# Altium footprint library Boards.PCBLIB: 6 footprints
Each footprint in its own frame and in the unit in brackets; x right, y up, seen from the top. Pads: shape width x height; smd on the part's side, far side on the other; paste and mask are expansions set on the pad; w line width, h text height; cw(c..) or ccw(c..) is an arc to the next point about the centre after c.
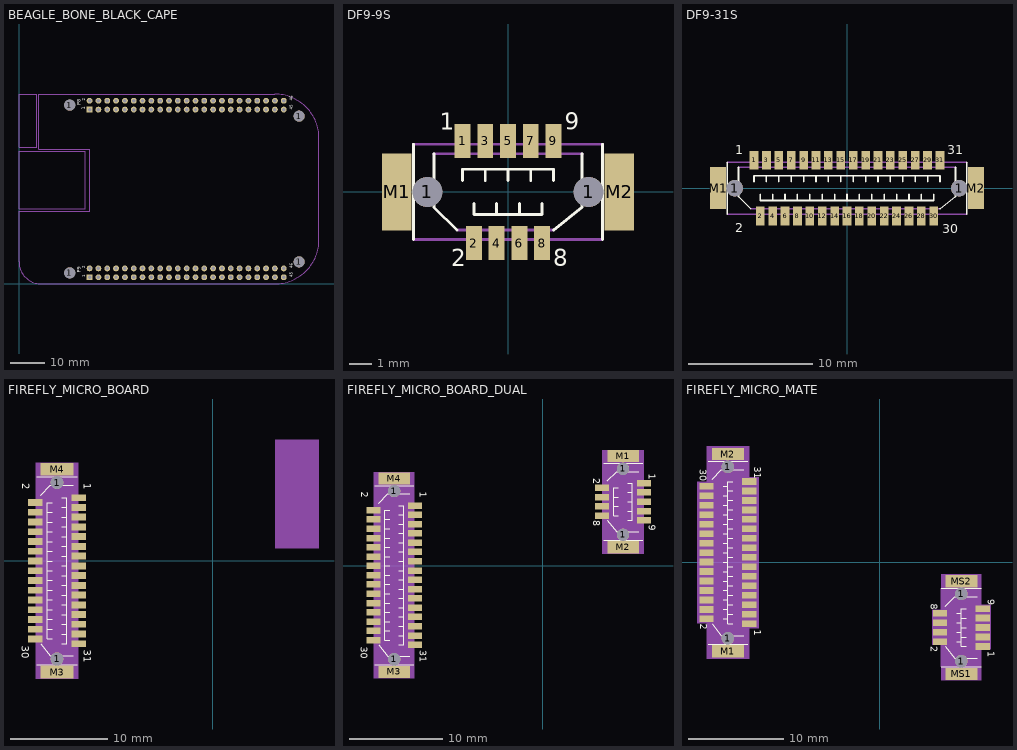
[diagram p0: the footprints below, top view; thin cyan lines are the x and y axes]

## BEAGLE_BONE_BLACK_CAPE [mil]
pads (96):
  round 125 hole 125: 1(575,125) 1(575,2025) 1(3175,250) 1(3175,1900)
  rect 66x66 hole 38: P8.1(800,1975) P9.1(800,75)
  round 66 hole 38: P8.2(800,2075) P8.3(900,1975) P8.4(900,2075) P8.5(1000,1975) P8.6(1000,2075) P8.7(1100,1975) P8.8(1100,2075) P8.9(1200,1975) P8.10(1200,2075) P8.11(1300,1975) P8.12(1300,2075) P8.13(1400,1975) P8.14(1400,2075) P8.15(1500,1975) P8.16(1500,2075) P8.17(1600,1975) P8.18(1600,2075) P8.19(1700,1975) P8.20(1700,2075) P8.21(1800,1975) P8.22(1800,2075) P8.23(1900,1975) P8.24(1900,2075) P8.25(2000,1975) P8.26(2000,2075) P8.27(2100,1975) P8.28(2100,2075) P8.29(2200,1975) P8.30(2200,2075) P8.31(2300,1975) P8.32(2300,2075) P8.33(2400,1975) P8.34(2400,2075) P8.35(2500,1975) P8.36(2500,2075) P8.37(2600,1975) P8.38(2600,2075) P8.39(2700,1975) P8.40(2700,2075) P8.41(2800,1975) P8.42(2800,2075) P8.43(2900,1975) P8.44(2900,2075) P8.45(3000,1975) P8.46(3000,2075) P9.2(800,175) P9.3(900,75) P9.4(900,175) P9.5(1000,75) P9.6(1000,175) P9.7(1100,75) P9.8(1100,175) P9.9(1200,75) P9.10(1200,175) P9.11(1300,75) P9.12(1300,175) P9.13(1400,75) P9.14(1400,175) P9.15(1500,75) P9.16(1500,175) P9.17(1600,75) P9.18(1600,175) P9.19(1700,75) P9.20(1700,175) P9.21(1800,75) P9.22(1800,175) P9.23(1900,75) P9.24(1900,175) P9.25(2000,75) P9.26(2000,175) P9.27(2100,75) P9.28(2100,175) P9.29(2200,75) P9.30(2200,175) P9.31(2300,75) P9.32(2300,175) P9.33(2400,75) P9.34(2400,175) P9.35(2500,75) P9.36(2500,175) P9.37(2600,75) P9.38(2600,175) P9.39(2700,75) P9.40(2700,175) P9.41(2800,75) P9.42(2800,175) P9.43(2900,75) P9.44(2900,175) P9.45(3000,75) P9.46(3000,175)
Top Overlay:
  text "1" at 750,1975 h42.5
  text "2" at 750,2075 h34
  text "P8" at 700,2025 h42.5
  text "45" at 3100,1975 h34
  text "46" at 3100,2075 h34
  text "46" at 3100,175 h34
  text "45" at 3100,75 h34
  text "1" at 750,75 h34
  text "2" at 750,175 h34
  text "P9" at 700,125 h42.5
Bottom Overlay:
  text "P8" at 700,2025 h42.5
  text "P9" at 700,125 h42.5
  text "1" at 750,1975 h42.5
  text "1" at 750,75 h34
  text "2" at 750,175 h34
  text "2" at 750,2075 h34
  text "46" at 3100,2075 h34
  text "45" at 3100,1975 h34
  text "45" at 3100,75 h34
  text "46" at 3100,175 h34
Mechanical 13:
  lines w5: 0,850 750,850 750,1500 0,1500 0,850 ; 0,1550 200,1550 200,2150 0,2150 0,1550
  text "Ethernet" at 300,1200 h42.5
  text "LED/Button" at 100,1850 h42.5
  text "Cutout" at 450,1200 h42.5
Mechanical 16:
  lines w5: 0,250 ccw(c250,250) 250,0 2900,0 ccw(c2900,500) 3400,500 3400,1650 ccw(c2900,1650) 2900,2150 225,2150 225,1525 800,1525 800,825 0,825 0,250

## DF9-9S [mil]
pads (13):
  round 52 hole 52: 1(-139.76,0) 1(139.76,0)
  rect 27.56x59.06 smd: 1(-78.74,88.58) 2(-59.06,-88.58) 3(-39.37,88.58) 4(-19.69,-88.58) 5(0,88.58) 6(19.69,-88.58) 7(39.37,88.58) 8(59.06,-88.58) 9(78.74,88.58)
  rect 51.18x133.86 smd: M1(-192.91,0) M2(192.91,0)
Top Overlay:
  lines w5: -163.39,-82.68 -163.39,82.68 ; -127.95,66.14 -127.95,-26.77 -88.58,-66.14 ; -78.74,19.69 -78.74,39.37 -39.37,39.37 ; -59.06,-19.69 -59.06,-39.37 -19.69,-39.37 ; -39.37,19.69 -39.37,39.37 ; -19.69,-19.69 -19.69,-39.37 ; 0,19.69 0,39.37 ; 19.69,-19.69 19.69,-39.37 ; 39.37,19.69 39.37,39.37 ; 59.06,-19.69 59.06,-39.37 19.69,-39.37 ; 78.74,-66.14 127.95,-26.77 127.95,66.14 ; 78.74,19.69 78.74,39.37 39.37,39.37 ; 163.39,-82.68 163.39,82.68 ; -39.37,39.37 0,39.37 ; -19.69,-39.37 19.69,-39.37 ; 0,39.37 39.37,39.37
  text "9" at 98.43,98.43 h49.6
  text "8" at 78.74,-137.8 h49.6
  text "2" at -98.43,-137.8 h49.6
  text "1" at -118.11,98.43 h49.6
Mechanical 16:
  lines w5: -163.39,-82.68 163.39,-82.68 ; -163.39,82.68 163.39,82.68 ; -127.95,66.14 127.95,66.14 ; -88.58,-66.14 78.74,-66.14

## DF9-31S [mm]
pads (35):
  round 1.321 hole 1.321: 1(-9.05,0) 1(9.05,0)
  rect 0.7x1.5 smd: 1(-7.5,2.25) 2(-7,-2.25) 3(-6.5,2.25) 4(-6,-2.25) 5(-5.5,2.25) 6(-5,-2.25) 7(-4.5,2.25) 8(-4,-2.25) 9(-3.5,2.25) 10(-3,-2.25) 11(-2.5,2.25) 12(-2,-2.25) 13(-1.5,2.25) 14(-1,-2.25) 15(-0.5,2.25) 16(0,-2.25) 17(0.5,2.25) 18(1,-2.25) 19(1.5,2.25) 20(2,-2.25) 21(2.5,2.25) 22(3,-2.25) 23(3.5,2.25) 24(4,-2.25) 25(4.5,2.25) 26(5,-2.25) 27(5.5,2.25) 28(6,-2.25) 29(6.5,2.25) 30(7,-2.25) 31(7.5,2.25)
  rect 1.3x3.4 smd: M1(-10.4,0) M2(10.4,0)
Top Overlay:
  lines w0.127: -9.65,-2.1 -9.65,2.1 ; -8.75,1.68 -8.75,-0.68 -7.75,-1.68 ; -7.5,0.5 -7.5,1 -6.5,1 ; -7,-0.5 -7,-1 -6,-1 ; -6.5,0.5 -6.5,1 ; -6,-0.5 -6,-1 ; -5.5,0.5 -5.5,1 ; -5,-0.5 -5,-1 ; -4.5,0.5 -4.5,1 ; -4,-0.5 -4,-1 ; -3.5,0.5 -3.5,1 ; -3,-0.5 -3,-1 ; -2.5,0.5 -2.5,1 ; -2,-0.5 -2,-1 ; -1.5,0.5 -1.5,1 ; -1,-0.5 -1,-1 ; -0.5,0.5 -0.5,1 ; 0,-0.5 0,-1 ; 0.5,0.5 0.5,1 ; 1,-0.5 1,-1 ; 1.5,0.5 1.5,1 ; 2,-0.5 2,-1 ; 2.5,0.5 2.5,1 ; 3,-0.5 3,-1 ; 3.5,0.5 3.5,1 ; 4,-0.5 4,-1 ; 4.5,0.5 4.5,1 ; 5,-0.5 5,-1 ; 5.5,0.5 5.5,1 ; 6,-0.5 6,-1 ; 6.5,0.5 6.5,1 ; 7,-0.5 7,-1 6,-1 ; 7.5,-1.68 8.75,-0.68 8.75,1.68 ; 7.5,0.5 7.5,1 6.5,1 ; 9.65,-2.1 9.65,2.1 ; -6.5,1 -5.5,1 ; -6,-1 -5,-1 ; -5.5,1 -4.5,1 ; -5,-1 -4,-1 ; -4.5,1 -3.5,1 ; -4,-1 -3,-1 ; -3.5,1 -2.5,1 ; -3,-1 -2,-1 ; -2.5,1 -1.5,1 ; -2,-1 -1,-1 ; -1.5,1 -0.5,1 ; -1,-1 0,-1 ; -0.5,1 0.5,1 ; 0,-1 1,-1 ; 0.5,1 1.5,1 ; 1,-1 2,-1 ; 1.5,1 2.5,1 ; 2,-1 3,-1 ; 2.5,1 3.5,1 ; 3,-1 4,-1 ; 3.5,1 4.5,1 ; 4,-1 5,-1 ; 4.5,1 5.5,1 ; 5,-1 6,-1 ; 5.5,1 6.5,1
  text "31" at 8.1,2.5 h1.26
  text "30" at 7.7,-3.9 h1.26
  text "2" at -9,-3.8 h1.26
  text "1" at -9,2.5 h1.26
Mechanical 16:
  lines w0.127: -9.65,-2.1 9.65,-2.1 ; -9.65,2.1 9.65,2.1 ; -8.75,1.68 8.75,1.68 ; -7.75,-1.68 7.5,-1.68

## FIREFLY_MICRO_BOARD [mil]
pads (35):
  round 52 hole 52: 1(-630.25,-395.72) 1(-630.25,316.88)
  rect 59.06x27.56 smd: 1(-541.67,255.86) 2(-718.83,236.17) 3(-541.67,216.49) 4(-718.83,196.8) 5(-541.67,177.12) 6(-718.83,157.43) 7(-541.67,137.75) 8(-718.83,118.06) 9(-541.67,98.38) 10(-718.83,78.69) 11(-541.67,59.01) 12(-718.83,39.32) 13(-541.67,19.64) 14(-718.83,-0.05) 15(-541.67,-19.73) 16(-718.83,-39.42) 17(-541.67,-59.1) 18(-718.83,-78.79) 19(-541.67,-98.47) 20(-718.83,-118.16) 21(-541.67,-137.84) 22(-718.83,-157.53) 23(-541.67,-177.21) 24(-718.83,-196.9) 25(-541.67,-216.58) 26(-718.83,-236.27) 27(-541.67,-255.95) 28(-718.83,-275.64) 29(-541.67,-295.32) 30(-718.83,-315.01) 31(-541.67,-334.69)
  rect 133.86x51.18 smd: M3(-630.25,-448.87) M4(-630.25,370.03)
Top Overlay:
  lines w5: -712.93,-419.34 -547.57,-419.34 ; -712.93,340.5 -547.57,340.5 ; -696.39,-334.69 -657.02,-383.91 -564.11,-383.91 ; -696.39,265.7 -657.02,305.07 -564.11,305.07 ; -649.94,-315.01 -669.62,-315.01 -669.62,-275.64 ; -649.94,-275.64 -669.62,-275.64 ; -649.94,-236.27 -669.62,-236.27 ; -649.94,-196.9 -669.62,-196.9 ; -649.94,-157.53 -669.62,-157.53 ; -649.94,-118.16 -669.62,-118.16 ; -649.94,-78.79 -669.62,-78.79 ; -649.94,-39.42 -669.62,-39.42 ; -649.94,-0.05 -669.62,-0.05 ; -649.94,39.32 -669.62,39.32 ; -649.94,78.69 -669.62,78.69 ; -649.94,118.06 -669.62,118.06 ; -649.94,157.43 -669.62,157.43 ; -649.94,196.8 -669.62,196.8 ; -649.94,236.17 -669.62,236.17 -669.62,196.8 ; -610.57,-334.69 -590.88,-334.69 -590.88,-295.32 ; -610.57,-295.32 -590.88,-295.32 ; -610.57,-255.95 -590.88,-255.95 ; -610.57,-216.58 -590.88,-216.58 ; -610.57,-177.21 -590.88,-177.21 ; -610.57,-137.84 -590.88,-137.84 ; -610.57,-98.47 -590.88,-98.47 ; -610.57,-59.1 -590.88,-59.1 ; -610.57,-19.73 -590.88,-19.73 ; -610.57,19.64 -590.88,19.64 ; -610.57,59.01 -590.88,59.01 ; -610.57,98.38 -590.88,98.38 ; -610.57,137.75 -590.88,137.75 ; -610.57,177.12 -590.88,177.12 ; -610.57,216.49 -590.88,216.49 ; -610.57,255.86 -590.88,255.86 -590.88,216.49 ; -669.62,-275.64 -669.62,-236.27 ; -669.62,-236.27 -669.62,-196.9 ; -669.62,-196.9 -669.62,-157.53 ; -669.62,-157.53 -669.62,-118.16 ; -669.62,-118.16 -669.62,-78.79 ; -669.62,-78.79 -669.62,-39.42 ; -669.62,-39.42 -669.62,-0.05 ; -669.62,-0.05 -669.62,39.32 ; -669.62,39.32 -669.62,78.69 ; -669.62,78.69 -669.62,118.06 ; -669.62,118.06 -669.62,157.43 ; -669.62,157.43 -669.62,196.8 ; -590.88,-295.32 -590.88,-255.95 ; -590.88,-255.95 -590.88,-216.58 ; -590.88,-216.58 -590.88,-177.21 ; -590.88,-177.21 -590.88,-137.84 ; -590.88,-137.84 -590.88,-98.47 ; -590.88,-98.47 -590.88,-59.1 ; -590.88,-59.1 -590.88,-19.73 ; -590.88,-19.73 -590.88,19.64 ; -590.88,19.64 -590.88,59.01 ; -590.88,59.01 -590.88,98.38 ; -590.88,98.38 -590.88,137.75 ; -590.88,137.75 -590.88,177.12 ; -590.88,177.12 -590.88,216.49
  text "1" at -531.83,314.91 h49.6
  text "2" at -779.86,314.91 h49.6
  text "30" at -783.8,-342.57 h49.6
  text "31" at -531.83,-358.32 h49.6
Mechanical 16:
  lines w5: -712.93,-419.34 -712.93,340.5 ; -696.39,-334.69 -696.39,265.7 ; -564.11,-383.91 -564.11,305.07 ; -547.57,-419.34 -547.57,340.5
Mechanical 27:
  rectangle: -717.24,-477.02 -544.01,396.99
  rectangle: 251.27,50.54 428.43,491.48
3D body "DF9-31S-1V.stp": height 129.92, standoff -31.5, extent -740.49,-453.87 -520.02,376.84

## FIREFLY_MICRO_BOARD_DUAL [mil]
pads (48):
  round 52 hole 52: 1(-630.25,-395.72) 1(-630.25,316.88) 1(339.53,132.16) 1(339.53,411.69)
  rect 59.06x27.56 smd: 1(-541.67,255.86) 2(-718.83,236.17) 3(-541.67,216.49) 4(-718.83,196.8) 5(-541.67,177.12) 6(-718.83,157.43) 7(-541.67,137.75) 8(-718.83,118.06) 9(-541.67,98.38) 10(-718.83,78.69) 11(-541.67,59.01) 12(-718.83,39.32) 13(-541.67,19.64) 14(-718.83,-0.05) 15(-541.67,-19.73) 16(-718.83,-39.42) 17(-541.67,-59.1) 18(-718.83,-78.79) 19(-541.67,-98.47) 20(-718.83,-118.16) 21(-541.67,-137.84) 22(-718.83,-157.53) 23(-541.67,-177.21) 24(-718.83,-196.9) 25(-541.67,-216.58) 26(-718.83,-236.27) 27(-541.67,-255.95) 28(-718.83,-275.64) 29(-541.67,-295.32) 30(-718.83,-315.01) 31(-541.67,-334.69) P1(428.11,350.66) P2(250.94,330.98) P3(428.11,311.29) P4(250.94,291.61) P5(428.11,271.92) P6(250.94,252.24) P7(428.11,232.55) P8(250.94,212.87) P9(428.11,193.18)
  rect 133.86x51.18 smd: M1(339.53,464.83) M2(339.53,79.01) M3(-630.25,-448.87) M4(-630.25,370.03)
Top Overlay:
  lines w5: -712.93,-419.34 -547.57,-419.34 ; -712.93,340.5 -547.57,340.5 ; -696.39,-334.69 -657.02,-383.91 -564.11,-383.91 ; -696.39,265.7 -657.02,305.07 -564.11,305.07 ; -649.94,-315.01 -669.62,-315.01 -669.62,-275.64 ; -649.94,-275.64 -669.62,-275.64 ; -649.94,-236.27 -669.62,-236.27 ; -649.94,-196.9 -669.62,-196.9 ; -649.94,-157.53 -669.62,-157.53 ; -649.94,-118.16 -669.62,-118.16 ; -649.94,-78.79 -669.62,-78.79 ; -649.94,-39.42 -669.62,-39.42 ; -649.94,-0.05 -669.62,-0.05 ; -649.94,39.32 -669.62,39.32 ; -649.94,78.69 -669.62,78.69 ; -649.94,118.06 -669.62,118.06 ; -649.94,157.43 -669.62,157.43 ; -649.94,196.8 -669.62,196.8 ; -649.94,236.17 -669.62,236.17 -669.62,196.8 ; -610.57,-334.69 -590.88,-334.69 -590.88,-295.32 ; -610.57,-295.32 -590.88,-295.32 ; -610.57,-255.95 -590.88,-255.95 ; -610.57,-216.58 -590.88,-216.58 ; -610.57,-177.21 -590.88,-177.21 ; -610.57,-137.84 -590.88,-137.84 ; -610.57,-98.47 -590.88,-98.47 ; -610.57,-59.1 -590.88,-59.1 ; -610.57,-19.73 -590.88,-19.73 ; -610.57,19.64 -590.88,19.64 ; -610.57,59.01 -590.88,59.01 ; -610.57,98.38 -590.88,98.38 ; -610.57,137.75 -590.88,137.75 ; -610.57,177.12 -590.88,177.12 ; -610.57,216.49 -590.88,216.49 ; -610.57,255.86 -590.88,255.86 -590.88,216.49 ; 256.85,108.54 422.2,108.54 ; 256.85,435.31 422.2,435.31 ; 273.39,193.18 312.76,143.97 405.67,143.97 ; 273.39,360.5 312.76,399.87 405.67,399.87 ; 319.84,212.87 300.16,212.87 300.16,252.24 ; 319.84,252.24 300.16,252.24 ; 319.84,291.61 300.16,291.61 ; 319.84,330.98 300.16,330.98 300.16,291.61 ; 359.21,193.18 378.9,193.18 378.9,232.55 ; 359.21,232.55 378.9,232.55 ; 359.21,271.92 378.9,271.92 ; 359.21,311.29 378.9,311.29 ; 359.21,350.66 378.9,350.66 378.9,311.29 ; -669.62,-275.64 -669.62,-236.27 ; -669.62,-236.27 -669.62,-196.9 ; -669.62,-196.9 -669.62,-157.53 ; -669.62,-157.53 -669.62,-118.16 ; -669.62,-118.16 -669.62,-78.79 ; -669.62,-78.79 -669.62,-39.42 ; -669.62,-39.42 -669.62,-0.05 ; -669.62,-0.05 -669.62,39.32 ; -669.62,39.32 -669.62,78.69 ; -669.62,78.69 -669.62,118.06 ; -669.62,118.06 -669.62,157.43 ; -669.62,157.43 -669.62,196.8 ; -590.88,-295.32 -590.88,-255.95 ; -590.88,-255.95 -590.88,-216.58 ; -590.88,-216.58 -590.88,-177.21 ; -590.88,-177.21 -590.88,-137.84 ; -590.88,-137.84 -590.88,-98.47 ; -590.88,-98.47 -590.88,-59.1 ; -590.88,-59.1 -590.88,-19.73 ; -590.88,-19.73 -590.88,19.64 ; -590.88,19.64 -590.88,59.01 ; -590.88,59.01 -590.88,98.38 ; -590.88,98.38 -590.88,137.75 ; -590.88,137.75 -590.88,177.12 ; -590.88,177.12 -590.88,216.49 ; 300.16,252.24 300.16,291.61 ; 378.9,232.55 378.9,271.92 ; 378.9,271.92 378.9,311.29
  text "9" at 437.95,173.5 h49.6
  text "8" at 201.73,193.18 h49.6
  text "2" at 201.73,370.35 h49.6
  text "1" at 437.95,390.03 h49.6
  text "31" at -531.83,-358.32 h49.6
  text "30" at -783.8,-342.57 h49.6
  text "2" at -779.86,314.91 h49.6
  text "1" at -531.83,314.91 h49.6
Mechanical 16:
  lines w5: -712.93,-419.34 -712.93,340.5 ; -696.39,-334.69 -696.39,265.7 ; -564.11,-383.91 -564.11,305.07 ; -547.57,-419.34 -547.57,340.5 ; 256.85,108.54 256.85,435.31 ; 273.39,193.18 273.39,360.5 ; 405.67,143.97 405.67,399.87 ; 422.2,108.54 422.2,435.31
Mechanical 27:
  rectangle: 251.27,50.54 428.43,491.48
  rectangle: -717.24,-477.02 -544.01,396.99

## FIREFLY_MICRO_MATE [mil]
pads (48):
  round 52 hole 52: 1(-630.25,-316.8) 1(-630.25,395.8) 1(339.53,-411.61) 1(339.53,-132.08)
  rect 59.06x27.56 smd: 1(-541.67,-255.78) 2(-718.83,-236.09) 3(-541.67,-216.41) 4(-718.83,-196.72) 5(-541.67,-177.04) 6(-718.83,-157.35) 7(-541.67,-137.67) 8(-718.83,-117.98) 9(-541.67,-98.3) 10(-718.83,-78.61) 11(-541.67,-58.93) 12(-718.83,-39.24) 13(-541.67,-19.56) 14(-718.83,0.13) 15(-541.67,19.81) 16(-718.83,39.5) 17(-541.67,59.18) 18(-718.83,78.87) 19(-541.67,98.55) 20(-718.83,118.24) 21(-541.67,137.92) 22(-718.83,157.61) 23(-541.67,177.29) 24(-718.83,196.98) 25(-541.67,216.66) 26(-718.83,236.35) 27(-541.67,256.03) 28(-718.83,275.72) 29(-541.67,295.4) 30(-718.83,315.09) 31(-541.67,334.77) S1(428.11,-350.58) S2(250.94,-330.9) S3(428.11,-311.21) S4(250.94,-291.53) S5(428.11,-271.84) S6(250.94,-252.16) S7(428.11,-232.47) S8(250.94,-212.79) S9(428.11,-193.1)
  rect 133.86x51.18 smd: M1(-630.25,-369.95) M2(-630.25,448.94) MS1(339.53,-464.76) MS2(339.53,-78.93)
Top Overlay:
  lines w5: -712.93,-340.43 -547.57,-340.43 ; -712.93,419.42 -547.57,419.42 ; -696.39,-255.78 -657.02,-304.99 -564.11,-304.99 ; -696.39,344.61 -657.02,383.98 -564.11,383.98 ; -649.94,-236.09 -630.25,-236.09 ; -649.94,-196.72 -630.25,-196.72 ; -649.94,-157.35 -630.25,-157.35 ; -649.94,-117.98 -630.25,-117.98 ; -649.94,-78.61 -630.25,-78.61 ; -649.94,-39.24 -630.25,-39.24 ; -649.94,0.13 -630.25,0.13 ; -649.94,39.5 -630.25,39.5 ; -649.94,78.87 -630.25,78.87 ; -649.94,118.24 -630.25,118.24 ; -649.94,157.61 -630.25,157.61 ; -649.94,196.98 -630.25,196.98 ; -649.94,236.35 -630.25,236.35 ; -649.94,275.72 -630.25,275.72 ; -649.94,315.09 -630.25,315.09 ; -610.57,-255.78 -630.25,-255.78 -630.25,-236.09 ; -610.57,-216.41 -630.25,-216.41 ; -610.57,-177.04 -630.25,-177.04 ; -610.57,-137.67 -630.25,-137.67 ; -610.57,-98.3 -630.25,-98.3 ; -610.57,-58.93 -630.25,-58.93 ; -610.57,-19.56 -630.25,-19.56 ; -610.57,19.81 -630.25,19.81 ; -610.57,59.18 -630.25,59.18 ; -610.57,98.55 -630.25,98.55 ; -610.57,137.92 -630.25,137.92 ; -610.57,177.29 -630.25,177.29 ; -610.57,216.66 -630.25,216.66 ; -610.57,256.03 -630.25,256.03 ; -610.57,295.4 -630.25,295.4 ; -610.57,334.77 -630.25,334.77 -630.25,315.09 ; 256.85,-435.23 422.2,-435.23 ; 256.85,-108.46 422.2,-108.46 ; 273.39,-350.58 312.76,-399.8 405.67,-399.8 ; 273.39,-183.26 312.76,-143.89 405.67,-143.89 ; 319.84,-330.9 339.53,-330.9 ; 319.84,-291.53 339.53,-291.53 ; 319.84,-252.16 339.53,-252.16 ; 319.84,-212.79 339.53,-212.79 ; 359.21,-350.58 339.53,-350.58 339.53,-330.9 ; 359.21,-311.21 339.53,-311.21 ; 359.21,-271.84 339.53,-271.84 ; 359.21,-232.47 339.53,-232.47 ; 359.21,-193.1 339.53,-193.1 339.53,-212.79 ; -630.25,-236.09 -630.25,-216.41 ; -630.25,-216.41 -630.25,-196.72 ; -630.25,-196.72 -630.25,-177.04 ; -630.25,-177.04 -630.25,-157.35 ; -630.25,-157.35 -630.25,-137.67 ; -630.25,-137.67 -630.25,-117.98 ; -630.25,-117.98 -630.25,-98.3 ; -630.25,-98.3 -630.25,-78.61 ; -630.25,-78.61 -630.25,-58.93 ; -630.25,-58.93 -630.25,-39.24 ; -630.25,-39.24 -630.25,-19.56 ; -630.25,-19.56 -630.25,0.13 ; -630.25,0.13 -630.25,19.81 ; -630.25,19.81 -630.25,39.5 ; -630.25,39.5 -630.25,59.18 ; -630.25,59.18 -630.25,78.87 ; -630.25,78.87 -630.25,98.55 ; -630.25,98.55 -630.25,118.24 ; -630.25,118.24 -630.25,137.92 ; -630.25,137.92 -630.25,157.61 ; -630.25,157.61 -630.25,177.29 ; -630.25,177.29 -630.25,196.98 ; -630.25,196.98 -630.25,216.66 ; -630.25,216.66 -630.25,236.35 ; -630.25,236.35 -630.25,256.03 ; -630.25,256.03 -630.25,275.72 ; -630.25,275.72 -630.25,295.4 ; -630.25,295.4 -630.25,315.09 ; 339.53,-330.9 339.53,-311.21 ; 339.53,-311.21 339.53,-291.53 ; 339.53,-291.53 339.53,-271.84 ; 339.53,-271.84 339.53,-252.16 ; 339.53,-252.16 339.53,-232.47 ; 339.53,-232.47 339.53,-212.79
  text "9" at 437.95,-153.73 h49.6
  text "8" at 201.73,-173.42 h49.6
  text "2" at 201.73,-350.58 h49.6
  text "1" at 437.95,-370.27 h49.6
  text "31" at -531.83,395.6 h49.6
  text "30" at -758.8,386.35 h49.6
  text "2" at -754.86,-256.17 h49.6
  text "1" at -531.83,-281.17 h49.6
Mechanical 16:
  lines w5: -712.93,-340.43 -712.93,419.42 ; -696.39,-255.78 -696.39,344.61 ; -564.11,-304.99 -564.11,383.98 ; -547.57,-340.43 -547.57,419.42 ; 256.85,-435.23 256.85,-108.46 ; 273.39,-350.58 273.39,-183.26 ; 405.67,-399.8 405.67,-143.89 ; 422.2,-435.23 422.2,-108.46
Mechanical 27:
  rectangle: 423.23,-364.13 462.6,-177.13
  rectangle: 216.54,-344.45 255.91,-196.81
  rectangle: 255.91,-492.09 423.23,-49.17
  rectangle: -541.34,-275.55 -501.97,354.37
  rectangle: -757.87,-255.87 -718.5,334.69
  rectangle: -718.5,-403.5 -541.34,482.32